# EAGLE library part QBLP679E-RGB (library APA102-5050)
LED RGB DIFFUSED 6SMD
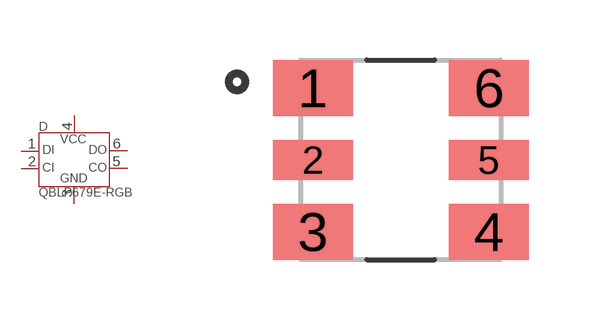
[diagram p0: symbol with the pads of LED_QBLP679E-RGB; footprint LED_QBLP679E-RGB]

Designator prefix D

## QBLP679E-RGB (AVAILABILITY: Unavailable; DESCRIPTION: Led Rgb Diffused 6smd; MF: QT Brightek; MP: QBLP679E-RGB; PACKAGE: PLCC-6 QT Brightek; PRICE: None)  [LED_QBLP679E-RGB]
1  DI
2  CI
3  GND
4  VCC
5  CO
6  DO

## Footprint LED_QBLP679E-RGB (pad centres in mm)
smd 2 x 1.4: 1 -2.2,1.8; 3 -2.2,-1.8; 4 2.2,-1.8; 6 2.2,1.8
smd 2 x 1: 2 -2.2,0; 5 2.2,0